# Altium schematic symbol library MMSD914T1G.SchLib: 1 symbol
Pins are listed as number, name and electrical type; pins without a type are passive.

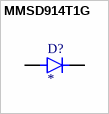
[diagram p0: symbol MMSD914T1G]

## MMSD914T1G
designator D?
MF: {'manufacturer': u'ON Semiconductor'}; MP: MMSD914T1G; Package: None; Price: None; Value: *; Availability: Unavailable
footprint DIO_MMSD914T1G
pins: A, K